# Altium schematic symbol library LTC4002.SchLib: 1 symbol
Pins are listed as number, name and electrical type; pins without a type are passive.

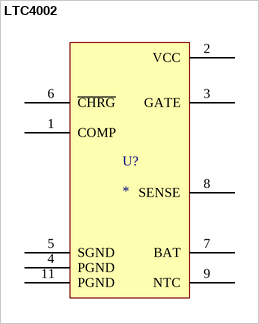
[diagram p0: symbol LTC4002]

## LTC4002
designator U?
Li-Ion Battery Charger; Part No.: LTC4002-8.4; Vendor: Linear Technology; Price Est.: $2.25; Manufacturer: Linear Technology
footprint DFN-10 3mmx3mm (DFN 10-pin 3mmx3mm Linear)
pins: 1 COMP, 2 VCC, 3 GATE, 4 PGND, 5 SGND, 6 ~{CHRG}, 7 BAT, 8 SENSE, 9 NTC, 11 PGND